# Altium schematic symbol library 飞控主板.SchLib: 4 symbols
Pins are listed as number, name and electrical type; pins without a type are passive.

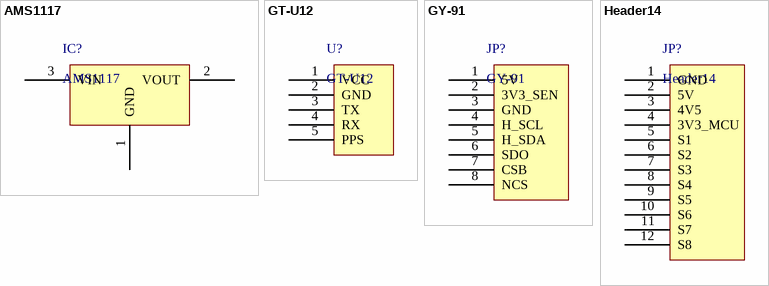
[diagram p0: symbols AMS1117 to Header14]

## AMS1117
designator IC?
3V3降压芯片
pins: 1 GND, 2 VOUT, 3 VIN

## GT-U12
designator U?
GPS模块
pins: 1 VCC, 2 GND, 3 TX, 4 RX, 5 PPS

## GY-91
designator JP?
优信电子GY-91接口，MPU9250+BMP280
pins: 1 5V, 2 3V3_SEN, 3 GND, 4 H_SCL, 5 H_SDA, 6 SDO, 7 CSB, 8 NCS

## Header14
designator JP?
14PIN接插件
pins: 1 GND, 2 5V, 3 4V5, 4 3V3_MCU, 5 S1, 6 S2, 7 S3, 8 S4, 9 S5, 10 S6, 11 S7, 12 S8